# Altium integrated library 22124072.IntLib: 1 symbol
Pins are listed as number, name and electrical type; pins without a type are passive.

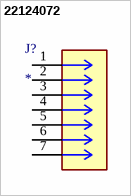
[diagram p0: symbol 22124072]

## 22124072
designator J?
MP: 22124072; Package: None; Price: None; Value: *; Availability: Unavailable
footprint CONN_A-7395-07B_MOL
pins: 1, 2, 3, 4, 5, 6, 7